# Altium footprint library RPI_EIT_Pcblib.PcbLib: 25 footprints (part 1 of 2)
Each footprint in its own frame and in the unit in brackets; x right, y up, seen from the top. Pads: shape width x height; smd on the part's side, far side on the other; paste and mask are expansions set on the pad; w line width, h text height; cw(c..) or ccw(c..) is an arc to the next point about the centre after c.
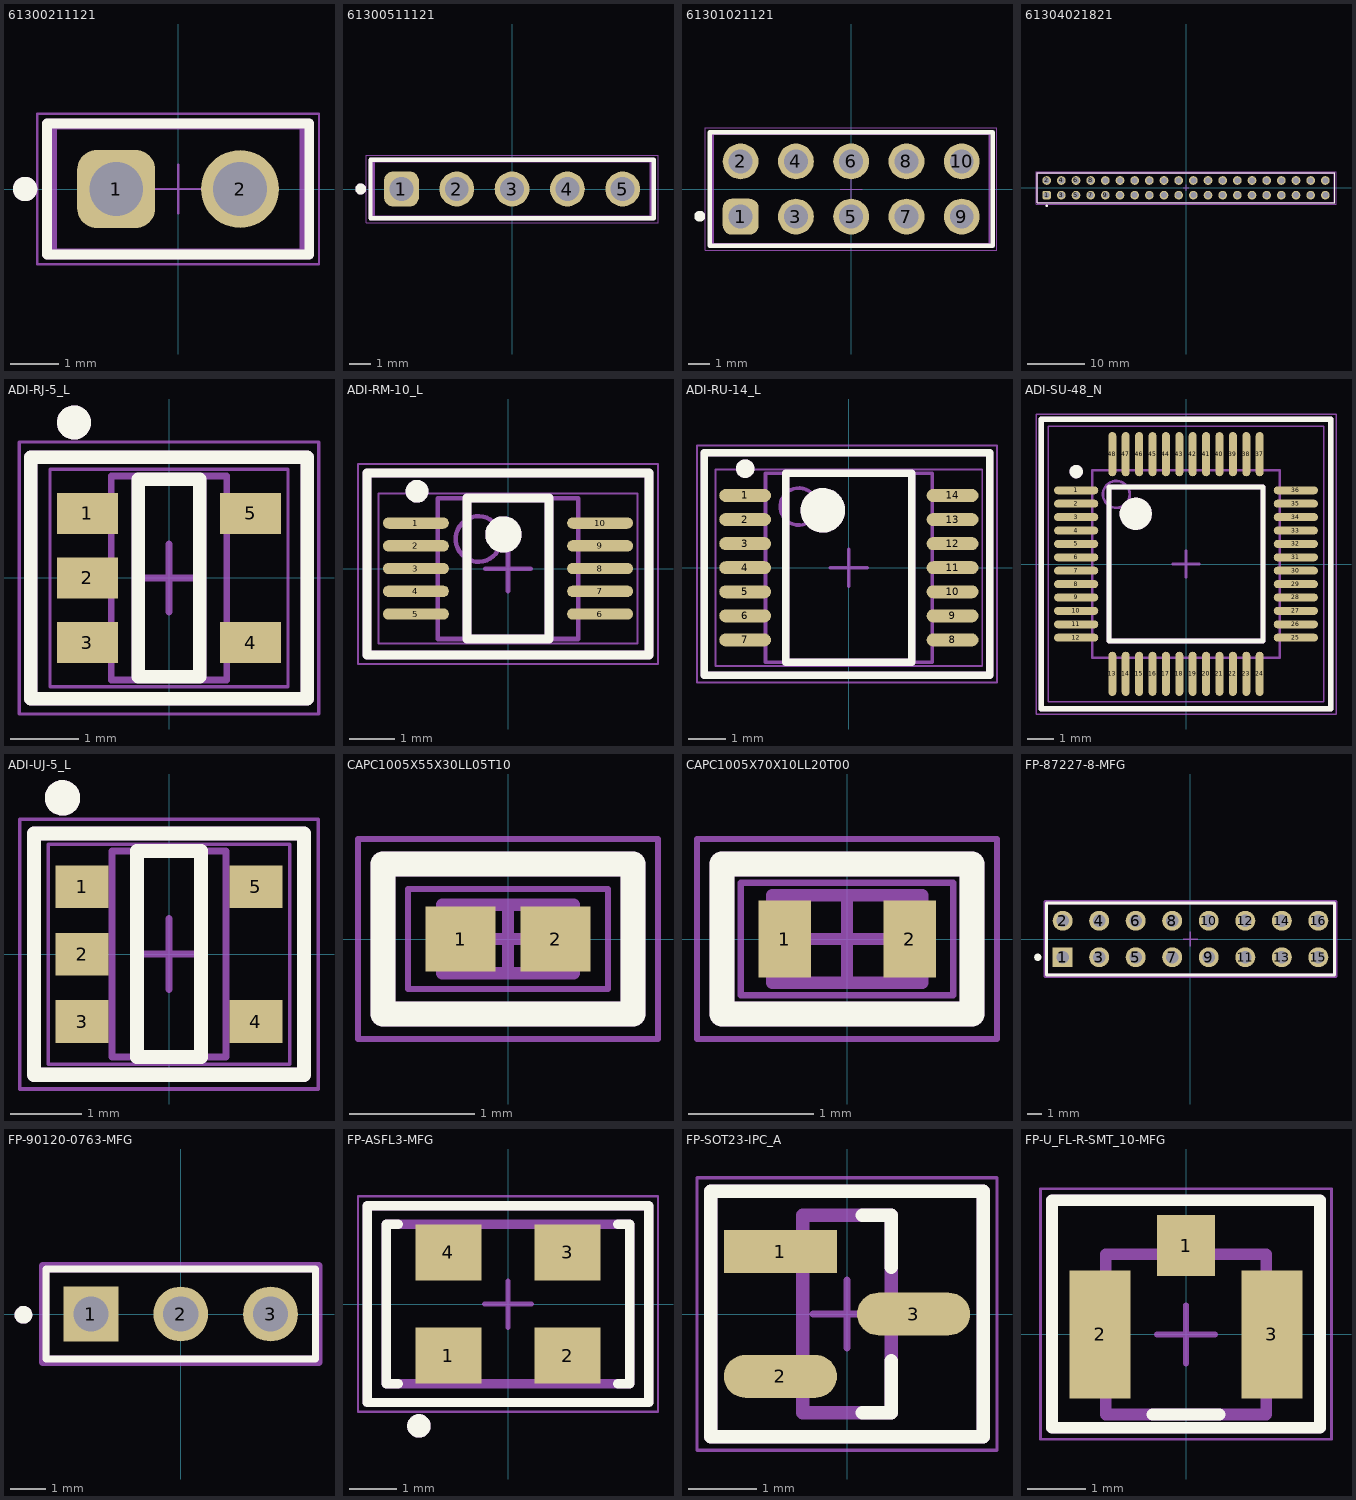
[diagram p0: the footprints below, top view; thin cyan lines are the x and y axes]

## 61300211121 [mm] "Pin Header, pitch 2.54 mm, THT, Vertical, single row, 2p"
height 8.54
pads (2):
  rrect50% 1.6x1.6 hole 1.1: 1(-1.27,0)
  round 1.6 hole 1.1: 2(1.27,0)
Top Overlay:
  circle w0.25: c-3.14,0 r0.125
  lines w0.2: -2.69,-1.345 2.69,-1.345 2.69,1.345 -2.69,1.345 -2.69,-1.345
Top Courtyard:
  lines w0.05: -2.89,-1.545 2.89,-1.545 2.89,1.545 -2.89,1.545 -2.89,-1.545
Top Assembly:
  circle w0.25: c-3.14,0 r0.125
  lines w0.2: -2.69,-1.345 2.69,-1.345 2.69,1.345 -2.69,1.345 -2.69,-1.345
  text ".Designator" at -3.499,-0.233 h0.7
Top Component Outline:
  lines w0.1: -2.54,-1.27 -2.54,1.27 2.54,1.27 2.54,-1.27 -2.54,-1.27
Top Component Center:
  lines w0.05: -0.5,0 0.5,0 ; 0,-0.5 0,0.5
3D body "61300211121.stp": height 8.57, standoff -2.97, extent -2.54,-1.27 2.54,1.27

## 61300511121 [mm] "Pin Header, pitch 2.54 mm, THT, Vertical, single row, 5p"
height 8.54
pads (5):
  rrect50% 1.6x1.6 hole 1.1: 1(-5.08,0)
  round 1.6 hole 1.1: 2(-2.54,0) 3(0,0) 4(2.54,0) 5(5.08,0)
Top Overlay:
  circle w0.25: c-6.95,0 r0.125
  lines w0.2: -6.5,-1.345 6.5,-1.345 6.5,1.345 -6.5,1.345 -6.5,-1.345
Top Courtyard:
  lines w0.05: -6.7,-1.545 6.7,-1.545 6.7,1.545 -6.7,1.545 -6.7,-1.545
Top Assembly:
  circle w0.25: c-6.95,0 r0.125
  lines w0.2: -6.5,-1.345 6.5,-1.345 6.5,1.345 -6.5,1.345 -6.5,-1.345
  text ".Designator" at -3.499,-0.233 h0.7
Top Component Outline:
  lines w0.1: -6.35,-1.27 6.35,-1.27 6.35,1.27 -6.35,1.27 -6.35,-1.27
Top Component Center:
  lines w0.05: -0.5,0 0.5,0 ; 0,-0.5 0,0.5
3D body "61300511121.stp": height 8.57, standoff -2.97, extent -6.35,-1.27 6.35,1.27

## 61301021121 [mm] "Pin Header, pitch 2.54 mm, THT, Vertical, dual row, 10p"
height 8.54
pads (10):
  rrect50% 1.65x1.65 hole 1.1: 1(-5.08,-1.27)
  round 1.65 hole 1.1: 2(-5.08,1.27) 3(-2.54,-1.27) 4(-2.54,1.27) 5(0,-1.27) 6(0,1.27) 7(2.54,-1.27) 8(2.54,1.27) 9(5.08,-1.27) 10(5.08,1.27)
Top Overlay:
  circle w0.25: c-6.96,-1.25 r0.125
  lines w0.2: -6.5,-2.615 6.5,-2.615 6.5,2.615 -6.5,2.615 -6.5,-2.615
Top Courtyard:
  lines w0.05: -6.7,-2.815 -6.7,2.815 6.7,2.815 6.7,-2.815 -6.7,-2.815
Top Designator:
  text ".Designator" at -7.498,-0.5 h1.5
Top Component Outline:
  lines w0.1: -6.35,-2.54 6.35,-2.54 6.35,2.54 -6.35,2.54 -6.35,-2.54
Top Component Center:
  lines w0.05: -0.5,0 0.5,0 ; 0,-0.5 0,0.5
3D body "61301021121.stp": height 8.59, standoff -2.95, extent -6.35,-2.54 6.35,2.54

## 61304021821 [mm] "Socket Header, Pitch 2.54 mm, THT, Vertical, dual row, 40p"
height 8.4
pads (40):
  rrect50% 1.5x1.5 hole 1.02: 1(-24.13,-1.27)
  round 1.5 hole 1.02: 2(-24.13,1.27) 3(-21.59,-1.27) 4(-21.59,1.27) 5(-19.05,-1.27) 6(-19.05,1.27) 7(-16.51,-1.27) 8(-16.51,1.27) 9(-13.97,-1.27) 10(-13.97,1.27) 11(-11.43,-1.27) 12(-11.43,1.27) 13(-8.89,-1.27) 14(-8.89,1.27) 15(-6.35,-1.27) 16(-6.35,1.27) 17(-3.81,-1.27) 18(-3.81,1.27) 19(-1.27,-1.27) 20(-1.27,1.27) 21(1.27,-1.27) 22(1.27,1.27) 23(3.81,-1.27) 24(3.81,1.27) 25(6.35,-1.27) 26(6.35,1.27) 27(8.89,-1.27) 28(8.89,1.27) 29(11.43,-1.27) 30(11.43,1.27) 31(13.97,-1.27) 32(13.97,1.27) 33(16.51,-1.27) 34(16.51,1.27) 35(19.05,-1.27) 36(19.05,1.27) 37(21.59,-1.27) 38(21.59,1.27) 39(24.13,-1.27) 40(24.13,1.27)
Top Overlay:
  circle w0.25: c-24.11,-3.1 r0.125
  lines w0.2: -25.775,-2.615 25.775,-2.615 25.775,2.615 -25.775,2.615 -25.775,-2.615
Top Courtyard:
  lines w0.05: -25.975,-2.815 -25.975,2.815 25.975,2.815 25.975,-2.815 -25.975,-2.815
Top Assembly:
  circle w0.25: c-24.11,-3.1 r0.125
  lines w0.2: -25.775,-2.615 25.775,-2.615 25.775,2.615 -25.775,2.615 -25.775,-2.615
  text ".Designator" at -3.499,-0.233 h0.7
Top Component Outline:
  lines w0.1: -25.65,-2.54 -25.65,2.54 25.65,2.54 25.65,-2.54 -25.65,-2.54
Top Component Center:
  lines w0.05: -0.5,0 0.5,0 ; 0,-0.5 0,0.5
3D body "61304021821.stp": height 8.45, standoff -3.05, extent -25.65,-2.54 25.65,2.54

## ADI-RJ-5_L [mm] "SOT-23, 5-Leads, Body 2.9x1.6mm, Pitch 0.95mm, IPC High Density"
height 1.45
pads (5):
  rect 0.9x0.6 smd: 1(-1.2,0.95) 2(-1.2,0) 3(-1.2,-0.95) 4(1.2,-0.95) 5(1.2,0.95)
Top Overlay:
  circle w0.25: c-1.397,2.286 r0.125
  lines w0.2: -2.032,-1.778 2.032,-1.778 2.032,1.778 -2.032,1.778 -2.032,-1.778 ; -0.45,-1.45 0.45,-1.45 0.45,1.45 -0.45,1.45 -0.45,-1.45
Top Courtyard:
  lines w0.05: -2.2,-2 2.2,-2 2.2,2 -2.2,2 -2.2,-2
Top Assembly:
  circle w0.25: c-1.397,2.286 r0.125
  lines w0.2: -2.032,-1.778 2.032,-1.778 2.032,1.778 -2.032,1.778 -2.032,-1.778 ; -0.45,-1.45 0.45,-1.45 0.45,1.45 -0.45,1.45 -0.45,-1.45
  text ".Designator" at -3.499,-0.233 h0.7
Mechanical 13:
  lines w0.1: -0.85,-1.5 0.85,-1.5 0.85,1.5 -0.85,1.5 -0.85,-1.5
Mechanical 15:
  lines w0.05: -1.75,-1.6 1.75,-1.6 1.75,1.6 -1.75,1.6 -1.75,-1.6
  lines w0.1: -0.5,0 0.5,0 ; 0,-0.5 0,0.5
3D body: height 1.45, standoff 0.05, extent -0.85,-1.5 0.85,1.5

## ADI-RM-10_L [mm] "TSSOP, 10-Leads, Body 3x3mm, Pitch 0.5mm, IPC High Density"
height 1.1
pads (10):
  oval 1.45x0.25 smd: 1(-2.025,1) 2(-2.025,0.5) 3(-2.025,0) 4(-2.025,-0.5) 5(-2.025,-1) 6(2.025,-1) 7(2.025,-0.5) 8(2.025,0) 9(2.025,0.5) 10(2.025,1)
Top Overlay:
  circle w0.4: c-0.1,0.75 r0.2
  circle w0.25: c-2,1.7 r0.125
  lines w0.2: -3.1,-1.9 3.1,-1.9 3.1,2.1 -3.1,2.1 -3.1,-1.9 ; -0.9,-1.55 0.9,-1.55 0.9,1.55 -0.9,1.55 -0.9,-1.55
Top Courtyard:
  lines w0.05: -3.3,-2.1 -3.3,2.3 3.3,2.3 3.3,-2.1 -3.3,-2.1
Top Assembly:
  circle w0.4: c-0.1,0.75 r0.2
  circle w0.25: c-2,1.7 r0.125
  lines w0.2: -3.1,-1.9 3.1,-1.9 3.1,2.1 -3.1,2.1 -3.1,-1.9 ; -0.9,-1.55 0.9,-1.55 0.9,1.55 -0.9,1.55 -0.9,-1.55
  text ".Designator" at -3.499,-0.233 h0.7
Mechanical 13:
  circle w0.1: c-0.65,0.65 r0.5
  lines w0.1: -1.55,-1.55 1.55,-1.55 1.55,1.55 -1.55,1.55 -1.55,-1.55
Mechanical 15:
  lines w0.05: -2.85,-1.65 2.85,-1.65 2.85,1.65 -2.85,1.65 -2.85,-1.65
  lines w0.1: -0.5,0 0.5,0 ; 0,-0.5 0,0.5
3D body: height 1.1, standoff 0, extent -1.55,-1.55 1.55,1.55

## ADI-RU-14_L [mm] "TSOP, 14-Leads, Body 5x4.4mm, Pitch 0.65mm, IPC High Density"
height 1.2
pads (14):
  oval 1.4x0.35 smd: 1(-2.8,1.95) 2(-2.8,1.3) 3(-2.8,0.65) 4(-2.8,0) 5(-2.8,-0.65) 6(-2.8,-1.3) 7(-2.8,-1.95) 8(2.8,-1.95) 9(2.8,-1.3) 10(2.8,-0.65) 11(2.8,0) 12(2.8,0.65) 13(2.8,1.3) 14(2.8,1.95)
Top Overlay:
  circle w0.6: c-0.7,1.55 r0.3
  circle w0.25: c-2.8,2.675 r0.125
  lines w0.2: -3.9,-2.9 3.8,-2.9 3.8,3.1 -3.9,3.1 -3.9,-2.9 ; -1.7,-2.55 1.7,-2.55 1.7,2.55 -1.7,2.55 -1.7,-2.55
Top Courtyard:
  lines w0.05: -4.1,-3.1 4,-3.1 4,3.3 -4.1,3.3 -4.1,-3.1
Top Assembly:
  circle w0.6: c-0.7,1.55 r0.3
  circle w0.25: c-2.8,2.675 r0.125
  lines w0.2: -3.9,-2.9 3.8,-2.9 3.8,3.1 -3.9,3.1 -3.9,-2.9 ; -1.7,-2.55 1.7,-2.55 1.7,2.55 -1.7,2.55 -1.7,-2.55
  text ".Designator" at -3.499,-0.233 h0.7
Mechanical 13:
  circle w0.1: c-1.35,1.65 r0.5
  lines w0.1: -2.25,-2.55 2.25,-2.55 2.25,2.55 -2.25,2.55 -2.25,-2.55
Mechanical 15:
  lines w0.05: -3.6,-2.65 3.6,-2.65 3.6,2.65 -3.6,2.65 -3.6,-2.65
  lines w0.1: -0.5,0 0.5,0 ; 0,-0.5 0,0.5
3D body: height 1.2, standoff 0.05, extent -2.25,-2.55 2.25,2.55

## ADI-SU-48_N [mm] "QFP, 48-Leads, Body 7x7mm, Pitch 0.5mm, IPC Medium Density"
height 1.2
pads (48):
  oval 1.65x0.3 smd: 1(-4.1,2.75) 2(-4.1,2.25) 3(-4.1,1.75) 4(-4.1,1.25) 5(-4.1,0.75) 6(-4.1,0.25) 7(-4.1,-0.25) 8(-4.1,-0.75) 9(-4.1,-1.25) 10(-4.1,-1.75) 11(-4.1,-2.25) 12(-4.1,-2.75) 25(4.1,-2.75) 26(4.1,-2.25) 27(4.1,-1.75) 28(4.1,-1.25) 29(4.1,-0.75) 30(4.1,-0.25) 31(4.1,0.25) 32(4.1,0.75) 33(4.1,1.25) 34(4.1,1.75) 35(4.1,2.25) 36(4.1,2.75)
  oval 0.3x1.65 smd: 13(-2.75,-4.1) 14(-2.25,-4.1) 15(-1.75,-4.1) 16(-1.25,-4.1) 17(-0.75,-4.1) 18(-0.25,-4.1) 19(0.25,-4.1) 20(0.75,-4.1) 21(1.25,-4.1) 22(1.75,-4.1) 23(2.25,-4.1) 24(2.75,-4.1) 37(2.75,4.1) 38(2.25,4.1) 39(1.75,4.1) 40(1.25,4.1) 41(0.75,4.1) 42(0.25,4.1) 43(-0.25,4.1) 44(-0.75,4.1) 45(-1.25,4.1) 46(-1.75,4.1) 47(-2.25,4.1) 48(-2.75,4.1)
Top Overlay:
  circle w0.25: c-4.1,3.45 r0.125
  circle w0.6: c-1.875,1.875 r0.3
  lines w0.2: -5.4,-5.4 -5.4,5.4 5.4,5.4 5.4,-5.4 -5.4,-5.4 ; -2.875,-2.875 -2.875,2.875 2.875,2.875 2.875,-2.875 -2.875,-2.875
Top Courtyard:
  lines w0.05: -5.6,-5.6 5.6,-5.6 5.6,5.6 -5.6,5.6 -5.6,-5.6
Top Assembly:
  circle w0.25: c-4.1,3.45 r0.125
  circle w0.6: c-1.875,1.875 r0.3
  lines w0.2: -5.4,-5.4 -5.4,5.4 5.4,5.4 5.4,-5.4 -5.4,-5.4 ; -2.875,-2.875 -2.875,2.875 2.875,2.875 2.875,-2.875 -2.875,-2.875
  text ".Designator" at -3.499,-0.233 h0.7
Mechanical 13:
  circle w0.1: c-2.6,2.6 r0.5
  lines w0.1: -3.5,-3.5 -3.5,3.5 3.5,3.5 3.5,-3.5 -3.5,-3.5
Mechanical 15:
  lines w0.05: -5.15,-5.15 -5.15,5.15 5.15,5.15 5.15,-5.15 -5.15,-5.15
  lines w0.1: -0.5,0 0.5,0 ; 0,-0.5 0,0.5
3D body: height 1.2, standoff 0.05, extent -3.5,-3.5 3.5,3.5

## ADI-UJ-5_L [mm] "SOT23, 5-Leads, Body 2.9x1.6mm, Pitch 0.95mm, IPC High Density"
height 1
pads (5):
  rect 0.75x0.6 smd: 1(-1.225,0.95) 2(-1.225,0) 3(-1.225,-0.95) 4(1.225,-0.95) 5(1.225,0.95)
Top Overlay:
  circle w0.25: c-1.5,2.2 r0.125
  lines w0.2: -1.9,-1.7 -1.9,1.7 1.9,1.7 1.9,-1.7 -1.9,-1.7 ; -0.45,-1.45 0.45,-1.45 0.45,1.45 -0.45,1.45 -0.45,-1.45
Top Courtyard:
  lines w0.05: -2.1,-1.9 -2.1,1.9 2.1,1.9 2.1,-1.9 -2.1,-1.9
Top Assembly:
  circle w0.25: c-1.5,2.2 r0.125
  lines w0.2: -1.9,-1.7 -1.9,1.7 1.9,1.7 1.9,-1.7 -1.9,-1.7 ; -0.45,-1.45 0.45,-1.45 0.45,1.45 -0.45,1.45 -0.45,-1.45
  text ".Designator" at -3.499,-0.233 h0.7
Mechanical 13:
  lines w0.1: -0.8,-1.45 -0.8,1.45 0.8,1.45 0.8,-1.45 -0.8,-1.45
Mechanical 15:
  lines w0.05: -1.7,-1.55 -1.7,1.55 1.7,1.55 1.7,-1.55 -1.7,-1.55
  lines w0.1: -0.5,0 0.5,0 ; 0,-0.5 0,0.5
3D body: height 1, standoff 0, extent -0.8,-1.45 0.8,1.45

## CAPC1005X55X30LL05T10 [mm] "Chip Capacitor, 2-Leads, Body 1.00x0.50mm, IPC High Density"
height 0.55
pads (2):
  rect 0.56x0.52 smd: 1(-0.38,0) 2(0.38,0)
Top Overlay:
  lines w0.2: -1,-0.6 -1,0.6 1,0.6 1,-0.6 -1,-0.6
Top Courtyard:
  lines w0.05: -1.2,-0.8 1.2,-0.8 1.2,0.8 -1.2,0.8 -1.2,-0.8
Top Assembly:
  lines w0.2: -1,-0.6 -1,0.6 1,0.6 1,-0.6 -1,-0.6
  text ".Designator" at -3.499,-0.233 h0.7
Mechanical 13:
  lines w0.1: -0.525,-0.275 -0.525,0.275 0.525,0.275 0.525,-0.275 -0.525,-0.275
Mechanical 15:
  lines w0.05: -0.8,-0.4 -0.8,0.4 0.8,0.4 0.8,-0.4 -0.8,-0.4
  lines w0.1: -0.275,0 0.275,0 ; 0,-0.275 0,0.275
3D body: height 0.55, standoff 0, extent -0.225,-0.275 0.225,0.275
3D body: height 0.55, standoff 0, extent -0.525,-0.275 -0.225,0.275
3D body: height 0.55, standoff 0, extent 0.225,-0.275 0.525,0.275

## CAPC1005X70X10LL20T00 [mm] "Chip Capacitor, 2-Leads, Body 1.00x0.50mm, IPC High Density"
height 0.7
pads (2):
  rect 0.42x0.62 smd: 1(-0.5,0) 2(0.5,0)
Top Overlay:
  lines w0.2: -1,-0.6 1,-0.6 1,0.6 -1,0.6 -1,-0.6
Top Courtyard:
  lines w0.05: -1.2,-0.8 1.2,-0.8 1.2,0.8 -1.2,0.8 -1.2,-0.8
Top Assembly:
  lines w0.2: -1,-0.6 1,-0.6 1,0.6 -1,0.6 -1,-0.6
  text ".Designator" at -3.499,-0.233 h0.7
Mechanical 13:
  lines w0.1: -0.6,-0.35 -0.6,0.35 0.6,0.35 0.6,-0.35 -0.6,-0.35
Mechanical 15:
  lines w0.05: -0.85,-0.45 -0.85,0.45 0.85,0.45 0.85,-0.45 -0.85,-0.45
  lines w0.1: -0.35,0 0.35,0 ; 0,-0.35 0,0.35
3D body: height 0.7, standoff 0, extent -0.5,-0.35 0.5,0.35
3D body: height 0.7, standoff 0, extent -0.6,-0.35 -0.5,0.35
3D body: height 0.7, standoff 0, extent 0.5,-0.35 0.6,0.35

## FP-87227-8-MFG [mil]
pads (16):
  rect 54.69x54.69 hole 35 paste-99999 mask+0: 1(-350,-50)
  round 54.69 hole 35 paste-99999 mask+0: 2(-350,50) 3(-250,-50) 4(-250,50) 5(-150,-50) 6(-150,50) 7(-50,-50) 8(-50,50) 9(50,-50) 10(50,50) 11(150,-50) 12(150,50) 13(250,-50) 14(250,50) 15(350,-50) 16(350,50)
Top Overlay:
  circle w9.84: c-418.12,-50 r4.92
  lines w7.87: -394.5,-98.5 394.5,-98.5 394.5,98.5 -394.5,98.5 -394.5,-98.5
Top 3D Body:
  lines w7.87: -394.5,-98.5 394.5,-98.5 394.5,98.5 -394.5,98.5 -394.5,-98.5
Top Courtyard:
  lines w7.87: -398.44,-102.44 398.44,-102.44 398.44,102.44 -398.44,102.44 -398.44,-102.44
Top Assembly:
  lines w7.87: -398.44,-102.44 398.44,-102.44 398.44,102.44 -398.44,102.44 -398.44,-102.44
  text ".Designator" at 0,7.4 h39.37
Top Component Center:
  lines w3.94: -19.68,0 19.68,0 ; 0,-19.68 0,19.68
3D body "Conn_TE_Connectivity_87227-8_eec.STEP": height 10, standoff 0, extent -398.44,-102.44 398.44,102.44

## FP-90120-0763-MFG [mm]
pads (3):
  rect 1.55x1.55 hole 1 paste-2539.97 mask+0: 1(-2.54,0)
  round 1.55 hole 1 paste-2539.97 mask+0: 2(0,0) 3(2.54,0)
Top Overlay:
  circle w0.25: c-4.45,-0.025 r0.125
  lines w0.2: -3.81,-1.27 3.81,-1.27 3.81,1.27 -3.81,1.27 -3.81,-1.27
Top 3D Body:
  lines w0.2: -3.81,-1.27 3.81,-1.27 3.81,1.27 -3.81,1.27 -3.81,-1.27
Top Courtyard:
  lines w0.2: -3.91,-1.37 3.91,-1.37 3.91,1.37 -3.91,1.37 -3.91,-1.37
Top Assembly:
  circle w0.25: c-4.45,-0.025 r0.125
  lines w0.2: -3.91,-1.37 3.91,-1.37 3.91,1.37 -3.91,1.37 -3.91,-1.37
  text ".Designator" at -3.499,-0.233 h0.7
Top Component Center:
  lines w0.1: -0.5,0 0.5,0 ; 0,-0.5 0,0.5
3D body "Conn_Molex_90120-0763_eec.STEP": height 0.25, standoff 0, extent -3.91,-1.37 3.91,1.37

## FP-ASFL3-MFG [mm]
pads (4):
  rect 1.4x1.2 smd paste+0 mask+0: 1(-1.27,-1.1) 2(1.27,-1.1) 3(1.27,1.1) 4(-1.27,1.1)
Top Overlay:
  circle w0.25: c-1.9,-2.6 r0.125
  lines w0.2: -2.345,-1.7 -2.6,-1.7 -2.6,1.7 -2.345,1.7 ; 2.345,-1.7 2.6,-1.7 2.6,1.7 2.345,1.7 ; -3,-2.1 3,-2.1 3,2.1 -3,2.1 -3,-2.1
Top 3D Body:
  lines w0.2: -2.6,-1.7 2.6,-1.7 2.6,1.7 -2.6,1.7 -2.6,-1.7
Top Courtyard:
  lines w0.05: -3.2,-2.3 -3.2,2.3 3.2,2.3 3.2,-2.3 -3.2,-2.3
Top Assembly:
  circle w0.25: c-1.9,-2.6 r0.125
  lines w0.2: -2.345,-1.7 -2.6,-1.7 -2.6,1.7 -2.345,1.7 ; 2.345,-1.7 2.6,-1.7 2.6,1.7 2.345,1.7 ; -3,-2.1 3,-2.1 3,2.1 -3,2.1 -3,-2.1
  text ".Designator" at -3.499,-0.233 h0.7
Top Component Center:
  lines w0.1: -0.5,0 0.5,0 ; 0,-0.5 0,0.5
3D body "Crys_Abracon_ASFL3-12_000MHZ-EK-T_eec.STEP": height 0.25, standoff 0, extent -2.7,-1.8 2.7,1.8

## FP-SOT23-IPC_A [mm]
pads (3):
  rect 1.659x0.627 smd paste+0 mask+0: 1(-0.977,0.915)
  rrect100% 1.659x0.627 smd paste+0 mask+0: 2(-0.977,-0.915) 3(0.977,0)
Top Overlay:
  lines w0.2: 0.228,-1.45 0.65,-1.45 0.65,-0.688 ; 0.228,1.45 0.65,1.45 0.65,0.688 ; -2,-1.8 2,-1.8 2,1.8 -2,1.8 -2,-1.8
Top 3D Body:
  lines w0.2: -0.65,-1.45 0.65,-1.45 0.65,1.45 -0.65,1.45 -0.65,-1.45
Top Courtyard:
  lines w0.05: -2.2,-2 -2.2,2 2.2,2 2.2,-2 -2.2,-2
Top Assembly:
  lines w0.2: 0.228,-1.45 0.65,-1.45 0.65,-0.688 ; 0.228,1.45 0.65,1.45 0.65,0.688 ; -2,-1.8 2,-1.8 2,1.8 -2,1.8 -2,-1.8
  text ".Designator" at -3.499,-0.233 h0.7
Top Component Center:
  lines w0.1: -0.5,0 0.5,0 ; 0,-0.5 0,0.5
3D body "Diode_Diodes_Inc_BZX84C18-7-F_eec.STEP": height 0.25, standoff 0, extent -2.306,-1.95 2.306,1.95

## FP-U_FL-R-SMT_10-MFG [mm]
pads (3):
  rect 1x1.05 smd paste-1000 mask+0: 1(0,1.525)
  rect 1.05x2.2 smd paste-1000 mask+0: 2(-1.475,0) 3(1.475,0)
Top Overlay:
  lines w0.2: -0.575,-1.375 0.575,-1.375 ; -2.3,-1.6 -2.3,2.3 2.3,2.3 2.3,-1.6 -2.3,-1.6
Top Paste:
  rectangle: 1.05,-1 1.95,1
  rectangle: -1.95,-1 -1.05,1
  rectangle: -0.4,1.1 0.4,1.95
Top 3D Body:
  lines w0.2: -1.375,-1.375 -1.375,1.375 1.375,1.375 1.375,-1.375 -1.375,-1.375
Top Courtyard:
  lines w0.05: -2.5,-1.8 2.5,-1.8 2.5,2.5 -2.5,2.5 -2.5,-1.8
Top Assembly:
  lines w0.2: -0.575,-1.375 0.575,-1.375 ; -2.3,-1.6 -2.3,2.3 2.3,2.3 2.3,-1.6 -2.3,-1.6
  text ".Designator" at -3.499,-0.233 h0.7
Top Component Center:
  lines w0.1: -0.5,0 0.5,0 ; 0,-0.5 0,0.5
3D body "Conn_Hirose_U_FL-R-SMT_10_eec.STEP": height 0.25, standoff 0, extent -2.1,-1.475 2.1,2.15